# EAGLE library part AD811_SO8 (library analog-devices)
ANALOG DEVICES
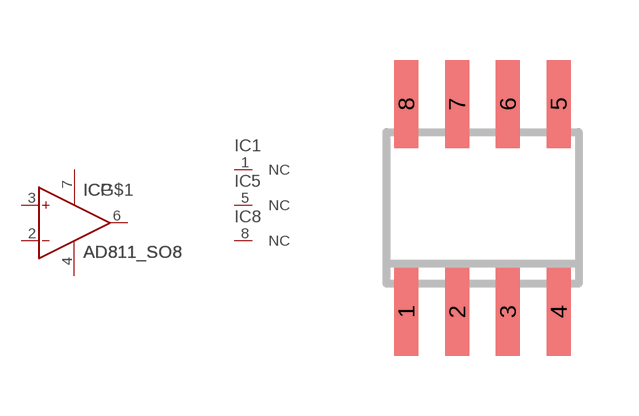
[diagram p11: symbol with the pads of SO8; footprint SO8]

Designator prefix IC; gates G$1=OP P=PWR+- 1=NC 5=NC 8=NC

## AD811_SO8 (MF: ALTERA CORPORATION; MPN: AD811JRZ; OC_FARNELL: unknown; OC_NEWARK: 82H2980)  [SO8]
1  1:NC  nc
2  G$1:IN-  in
3  G$1:IN+  in
4  P:V-  pwr
5  5:NC  nc
6  G$1:OUT  out
7  P:V+  pwr
8  8:NC  nc

## Footprint SO8 (pad centres in mm)
SMALL OUTLINE INTEGRATED CIRCUIT SOP-8L Source: http://www.diodes.com/datasheets/ds31262.pdf
smd 0.6 x 2.2: 1 -1.905,-2.6; 2 -0.635,-2.6; 3 0.635,-2.6; 4 1.905,-2.6; 5 1.905,2.6; 6 0.635,2.6; 7 -0.635,2.6; 8 -1.905,2.6